# Altium footprint library Other.PcbLib: 8 footprints
Each footprint in its own frame and in the unit in brackets; x right, y up, seen from the top. Pads: shape width x height; smd on the part's side, far side on the other; paste and mask are expansions set on the pad; w line width, h text height; cw(c..) or ccw(c..) is an arc to the next point about the centre after c.
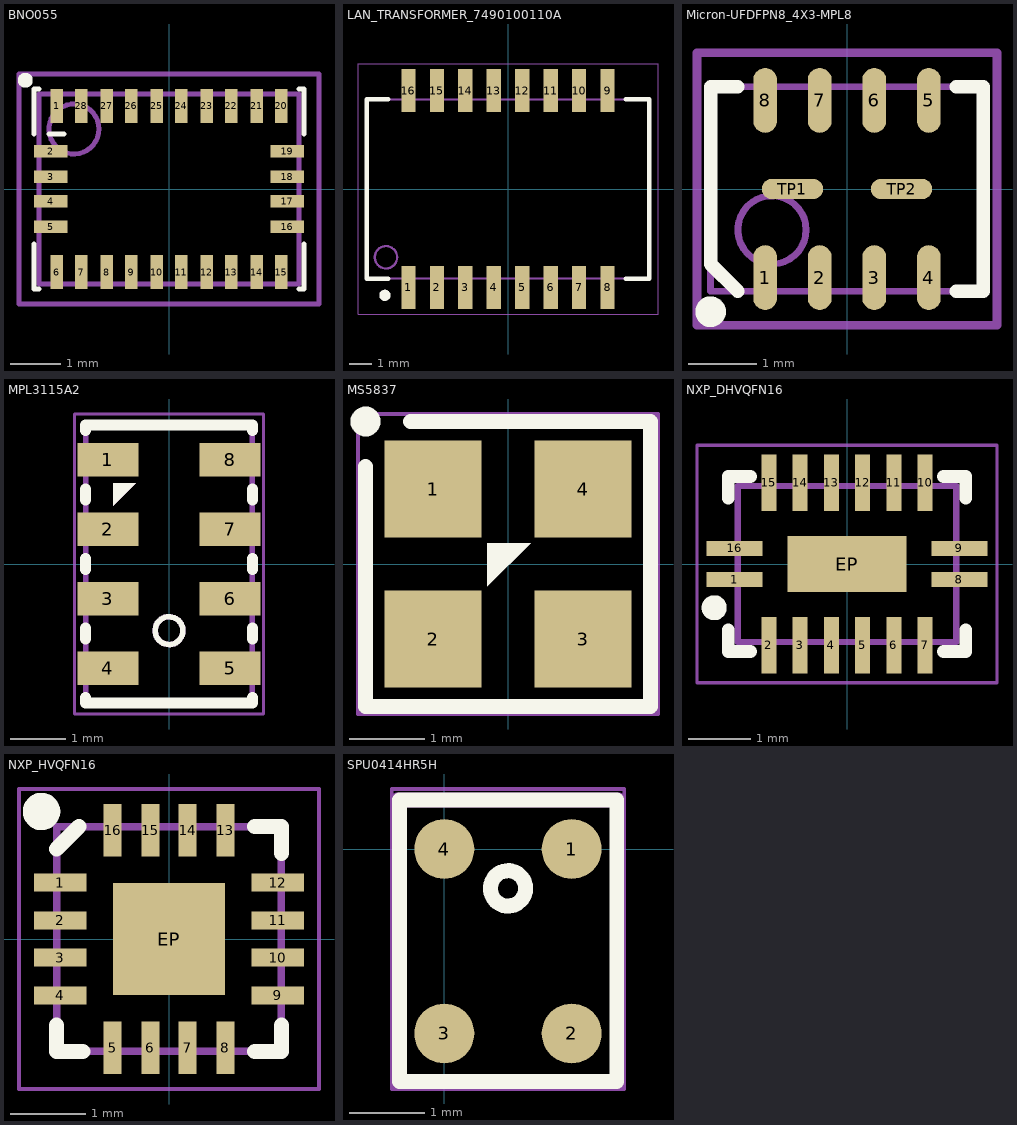
[diagram p0: the footprints below, top view; thin cyan lines are the x and y axes]

## BNO055 [mm] "Bosh 9 axis imu - LGA28"
pads (28):
  rect 0.25x0.675 smd mask+0.071: 1(-2.25,1.662) 6(-2.25,-1.662) 7(-1.75,-1.662) 8(-1.25,-1.662) 9(-0.75,-1.662) 10(-0.25,-1.662) 11(0.25,-1.662) 12(0.75,-1.662) 13(1.25,-1.662) 14(1.75,-1.662) 15(2.25,-1.662) 20(2.25,1.662) 21(1.75,1.662) 22(1.25,1.662) 23(0.75,1.662) 24(0.25,1.662) 25(-0.25,1.662) 26(-0.75,1.662) 27(-1.25,1.662) 28(-1.75,1.662)
  rect 0.675x0.25 smd mask+0.071: 2(-2.362,0.75) 3(-2.362,0.25) 4(-2.362,-0.25) 5(-2.362,-0.75) 16(2.362,-0.75) 17(2.362,-0.25) 18(2.362,0.25) 19(2.362,0.75)
Top Overlay:
  circle w0.15: c-2.875,2.175 r0.075
  lines w0.1: -2.7,-1.1 -2.7,-2 -2.6,-2 ; -2.7,1.1 -2.7,2 -2.6,2 ; -2.4,1.1 -2.1,1.1 ; 2.6,-2 2.7,-2 2.7,-1.1 ; 2.6,2 2.7,2 2.7,1.1
Mechanical 13:
  circle w0.1: c-1.9,1.2 r0.5
  lines w0.1: -2.6,-1.9 2.6,-1.9 2.6,1.9 -2.6,1.9 -2.6,-1.9
Mechanical 15:
  lines w0.1: -3,-2.3 -3,2.3 3,2.3 3,-2.3 -3,-2.3
  text ".Designator" at -2.8,-0.4 h1.5
3D body: height 1, standoff 0, extent -2.6,-1.9 2.6,1.9

## LAN_TRANSFORMER_7490100110A [mm] "7490100110A"
pads (16):
  rect 0.64x1.92 smd: 1(-4.445,-4.39) 2(-3.175,-4.39) 3(-1.905,-4.39) 4(-0.635,-4.39) 5(0.635,-4.39) 6(1.905,-4.39) 7(3.175,-4.39) 8(4.445,-4.39) 9(4.445,4.39) 10(3.175,4.39) 11(1.905,4.39) 12(0.635,4.39) 13(-0.635,4.39) 14(-1.905,4.39) 15(-3.175,4.39) 16(-4.445,4.39)
Top Overlay:
  circle w0.25: c-5.5,-4.75 r0.125
  lines w0.2: -5.35,-4 -6.3,-4 -6.3,4 -5.35,4 ; 5.25,-4 6.3,-4 6.3,4 5.25,4
Mechanical 13:
  circle w0.1: c-5.45,-3.05 r0.5
  lines w0.1: -6.3,-4 -6.3,4 6.3,4 6.3,-4 -6.3,-4
Mechanical 15:
  lines w0.05: -6.7,-5.6 -6.7,5.6 6.7,5.6 6.7,-5.6 -6.7,-5.6
  text ".Designator" at -4.75,-0.25 h2
3D body "User Library-lan_transformer_wurt.step": height 6.29, standoff 0, extent -6.35,-4.7 6.35,4.7

## Micron-UFDFPN8_4X3-MPL8 [mm] "UFDFPN8"
pads (10):
  rrect100% 0.35x0.95 smd: 1(-1.2,-1.3) 2(-0.4,-1.3) 3(0.4,-1.3) 4(1.2,-1.3) 5(1.2,1.3) 6(0.4,1.3) 7(-0.4,1.3) 8(-1.2,1.3)
  rrect100% 0.9x0.3 smd: TP1(-0.8,0) TP2(0.8,0)
Top Overlay:
  circle w0.25: c-2,-1.8 r0.1
  lines w0.2: -1.6,-1.5 -2,-1.1 -2,1.5 -1.6,1.5 ; 1.6,-1.5 2,-1.5 2,1.5 1.6,1.5
Mechanical 13:
  circle w0.1: c-1.1,-0.6 r0.5
  lines w0.1: -2,-1.5 2,-1.5 2,1.5 -2,1.5 -2,-1.5
Mechanical 15:
  lines w0.127: -2.2,-2 2.2,-2 2.2,2 -2.2,2 -2.2,-2
  text ".Designator" at -2,0 h1.5
3D body "PQFN0P400X300X55-8N.step": height 0.55, standoff 0, extent -2,-1.5 2,1.5

## MPL3115A2 [mm]
pads (8):
  rect 1.1x0.6 smd mask+0.05: 1(-1.1,1.875) 2(-1.1,0.625) 3(-1.1,-0.625) 4(-1.1,-1.875) 5(1.1,-1.875) 6(1.1,-0.625) 7(1.1,0.625) 8(1.1,1.875)
Top Overlay:
  circle w0.1: c0,-1.2 r0.25
  region: -1,1.45 -0.6,1.45 -1,1.05
  lines w0.2: -1.5,-2.4 -1.5,-2.5 1.5,-2.5 1.5,-2.4 ; -1.5,-1.35 -1.5,-1.15 ; -1.5,-0.1 -1.5,0.1 ; -1.5,1.15 -1.5,1.35 ; -1.5,2.4 -1.5,2.5 1.5,2.5 1.5,2.4 ; 1.5,-1.35 1.5,-1.15 ; 1.5,-0.1 1.5,0.1 ; 1.5,1.15 1.5,1.35
Mechanical 13:
  circle w0.1: c0,-1.2 r0.25
  rectangle: -1.4,0.375 -0.6,0.875
  rectangle: -1.4,-0.875 -0.6,-0.375
  rectangle: -1.4,1.625 -0.6,2.125
  region: -0.6,-1.625 -1.4,-1.625 -1.4,-2.125 -0.6,-2.125
  rectangle: 0.6,-2.125 1.4,-1.625
  region: 1.4,2.125 0.6,2.125 0.6,1.625 1.4,1.625
  region: 1.4,-0.375 0.6,-0.375 0.6,-0.875 1.4,-0.875
  region: 1.4,0.875 0.6,0.875 0.6,0.375 1.4,0.375
  region: -1,1.45 -0.6,1.45 -1,1.05
  lines w0.1: -1.5,-2.5 1.5,-2.5 1.5,2.5 -1.5,2.5 -1.5,-2.5
Mechanical 15:
  lines w0.05: -1.7,-2.7 -1.7,2.7 1.7,2.7 1.7,-2.7 -1.7,-2.7
  text ".Designator" at 0.2,-2.3 h1
3D body "User Library-MPL3115A2.step": height 1.1, standoff 0, extent -1.5,-2.5 1.5,2.5

## MS5837 [mm]
pads (4):
  rect 1.3x1.3 smd mask+0.05: 1(-1,1) 2(-1,-1) 3(1,-1) 4(1,1)
Top Overlay:
  circle w0.2: c-1.9,1.9 r0.1
  region: -0.275,0.275 -0.275,-0.3 0.3,0.275
  lines w0.2: -1.9,1.3 -1.9,-1.9 1.9,-1.9 1.9,1.9 -1.3,1.9
Mechanical 15:
  lines w0.05: -2,-2 2,-2 2,2 -2,2 -2,-2
  text ".Designator" at -0.2,1.7 h0.75
3D body "MS5837-30BA.stp": height 2.75, standoff 0, extent -1.65,-1.65 1.65,1.65

## NXP_DHVQFN16 [mm]
pads (17):
  rect 0.9x0.24 smd mask+0.05: 1(-1.8,-0.25) 8(1.8,-0.25) 9(1.8,0.25) 16(-1.8,0.25)
  rect 0.24x0.9 smd mask+0.05: 2(-1.25,-1.3) 3(-0.75,-1.3) 4(-0.25,-1.3) 5(0.25,-1.3) 6(0.75,-1.3) 7(1.25,-1.3) 10(1.25,1.3) 11(0.75,1.3) 12(0.25,1.3) 13(-0.25,1.3) 14(-0.75,1.3) 15(-1.25,1.3)
  rect 1.9x0.9 smd: EP(0,0)
Top Overlay:
  circle w0.2: c-2.125,-0.7 r0.1
  lines w0.203: -1.9,-1.05 -1.9,-1.4 -1.544,-1.4 ; -1.9,1.05 -1.9,1.4 -1.544,1.4 ; 1.544,-1.4 1.9,-1.4 1.9,-1.05 ; 1.544,1.4 1.9,1.4 1.9,1.05
Top Paste:
  rectangle: -0.45,-0.45 -0.15,-0.15
  region: 0.45,-0.15 0.15,-0.15 0.15,-0.45 0.45,-0.45
  region: 0.45,0.45 0.15,0.45 0.15,0.15 0.45,0.15
  rectangle: -0.45,0.15 -0.15,0.45
Mechanical 13:
  lines w0.1: -1.75,-1.25 1.75,-1.25 1.75,1.25 -1.75,1.25 -1.75,-1.25
Mechanical 15:
  lines w0.05: -2.4,-1.9 -2.4,1.9 2.4,1.9 2.4,-1.9 -2.4,-1.9
  text ".Designator" at -2.2,-0.2 h1
3D body "User Library-DHVQFN 16.step": height 1.05, standoff 0, extent -1.81,-1.31 1.81,1.31

## NXP_HVQFN16 [mm]
pads (17):
  rect 0.7x0.24 smd mask+0.05: 1(-1.45,0.75) 2(-1.45,0.25) 3(-1.45,-0.25) 4(-1.45,-0.75) 9(1.45,-0.75) 10(1.45,-0.25) 11(1.45,0.25) 12(1.45,0.75)
  rect 0.24x0.7 smd mask+0.05: 5(-0.75,-1.45) 6(-0.25,-1.45) 7(0.25,-1.45) 8(0.75,-1.45) 13(0.75,1.45) 14(0.25,1.45) 15(-0.25,1.45) 16(-0.75,1.45)
  rect 1.5x1.5 smd paste-10 mask+0.05: EP(0,0)
Top Overlay:
  circle w0.25: c-1.7,1.7 r0.125
  lines w0.203: -1.5,-1.15 -1.5,-1.5 -1.15,-1.5 ; -1.5,1.2 -1.2,1.5 ; 1.144,-1.5 1.5,-1.5 1.5,-1.15 ; 1.144,1.5 1.5,1.5 1.5,1.144
Top Paste:
  rectangle: -0.45,0.15 -0.15,0.45
  region: 0.45,0.45 0.15,0.45 0.15,0.15 0.45,0.15
  region: 0.45,-0.15 0.15,-0.15 0.15,-0.45 0.45,-0.45
  rectangle: -0.45,-0.45 -0.15,-0.15
Mechanical 13:
  lines w0.1: -1.5,-1.5 -1.5,1.5 1.5,1.5 1.5,-1.5 -1.5,-1.5
Mechanical 15:
  lines w0.05: -2,-2 2,-2 2,2 -2,2 -2,-2
  text ".Designator" at -1.8,-0.3 h1
3D body "User Library-qfn16-3x3.step": height 0.92, standoff 0, extent -1.5,-1.5 1.5,1.5

## SPU0414HR5H [mm]
pads (4):
  round 0.8 smd paste+0: 1(1.7,0) 2(1.7,-2.46) 3(0,-2.46) 4(0,0)
Top Overlay:
  circle w0.2: c0.85,-0.525 r0.236
  lines w0.2: -0.6,-3.1 -0.6,0.65 2.3,0.65 2.3,-3.1 -0.6,-3.1
Mechanical 13:
  lines w0.2: -0.625,-3.11 2.325,-3.11 2.325,0.65 -0.625,0.65 -0.625,-3.11
Mechanical 15:
  lines w0.05: -0.7,-3.2 -0.7,0.8 2.4,0.8 2.4,-3.2 -0.7,-3.2
  text ".Designator" at -0.3,-1.3 h0.5
3D body "SPU0414HR5H.step": height 1.1, standoff 0, extent -0.625,-3.11 2.325,0.65